# Altium schematic symbol library gersh.SchLib: 6 symbols
Pins are listed as number, name and electrical type; pins without a type are passive.

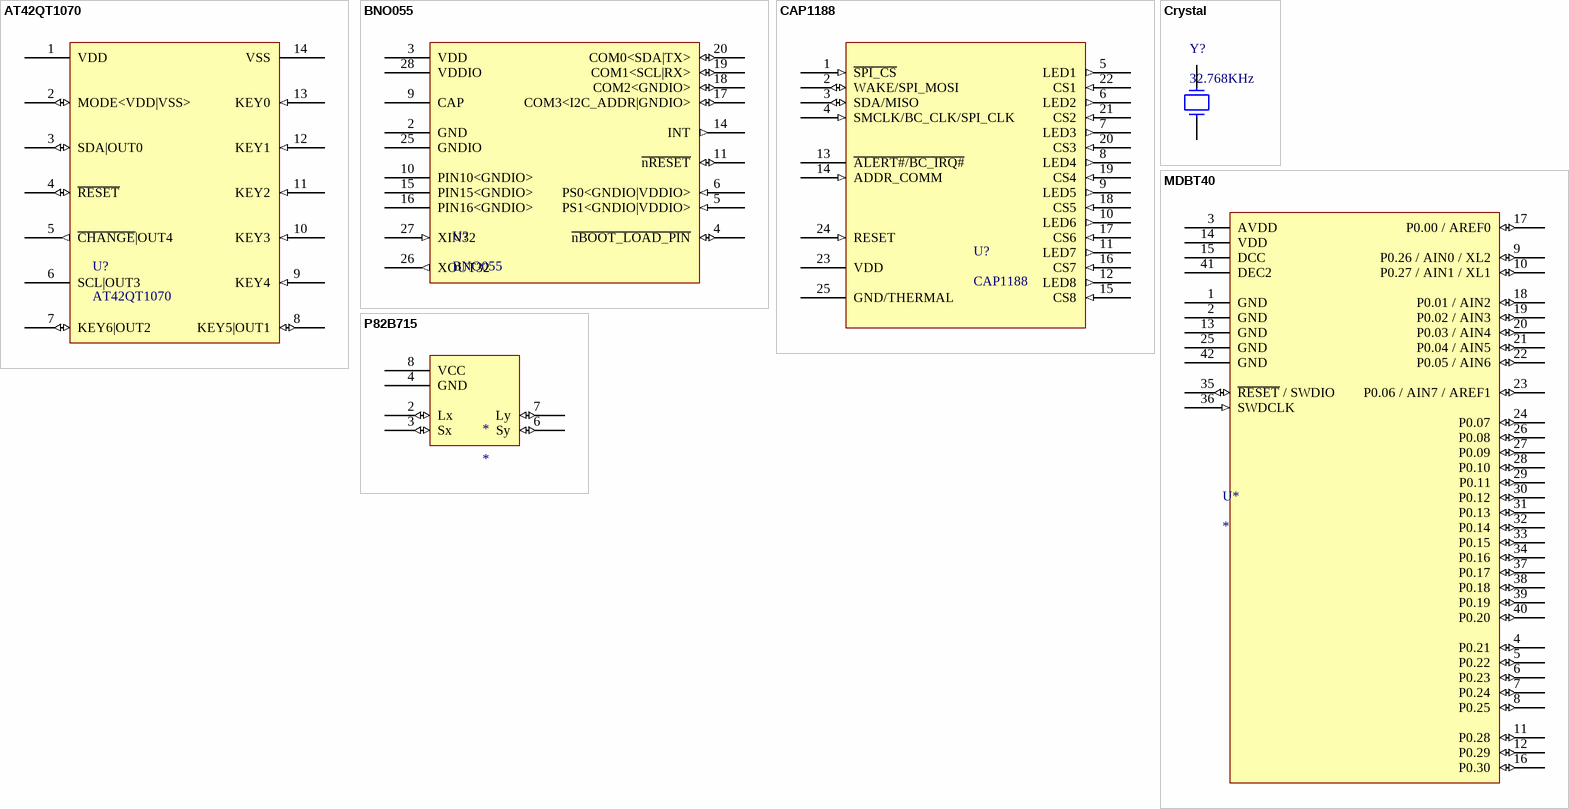
[diagram p0: symbols AT42QT1070 to P82B715]

## AT42QT1070
designator U?
Seven-channel Q Touch Sensor IC; Supplier 1: Digi-Key; Supplier Part Number 1: AT42QT1070-SSUCT-ND; Supplier 2: Digi-Key; Supplier Part Number 2: AT42QT1070-MMHCT-ND
footprint SOIC14 (SOIC, 14-Leads, Body 8.7x3.9mm, Pitch 1.27mm, IPC Low Density)
pins: 1 VDD (power) "Power", 2 MODE<VDD|VSS> (io) "Mode selection pin (comms to Vss, standalone to Vdd)", 3 SDA|OUT0 (io) "Comms mode I2C SDA, standalone guard channel (output 0)", 4 ~{RESET} (io) "Reset pin has 60k internal pull-up", 5 ~{CHANGE}|OUT4 (out) "Comms mode change line, standalone output 4", 6 SCL|OUT3 "Comms mode I2C SCL, standalone output 3", 7 KEY6|OUT2 (io) "Comms mode key 6, standalone output 2", 8 KEY5|OUT1 (io) "Comms mode key 5, standalone output 1", 9 KEY4 (in) "Key 4", 10 KEY3 (in) "Key 3", 11 KEY2 (in) "Key 2", 12 KEY1 (in) "Key 1", 13 KEY0 (in) "Key 0", 14 VSS (power) "Ground"

## BNO055
designator U?
Absolute Orientation Sensor; Supplier 1: Digi-Key; Supplier Part Number 1: 828-1058-1-ND
footprint BNO055 (28-Leads, Body 5.2x3.8mm, Pitch 0.5mm)
pins: 2 GND (power), 3 VDD (power), 4 ~{nBOOT_LOAD_PIN} (io) "Bootloader mode select pin (active low)", 5 PS1<GNDIO|VDDIO> (in) "Protocol select pin 1", 6 PS0<GNDIO|VDDIO> (in) "Protocol select pin 2", 9 CAP "External Capacitor", 10 PIN10<GNDIO> (power) "connect to GNDIO", 11 ~{nRESET} (io) "Reset pin (active low)", 14 INT (out) "Interrupt output", 15 PIN15<GNDIO> (power) "connect to GNDIO", 16 PIN16<GNDIO> (power) "connect to GNDIO", 17 COM3<I2C_ADDR|GNDIO> (io) "Digital interface pin 3", 18 COM2<GNDIO> (io) "Digital interface pin 2", 19 COM1<SCL|RX> (io) "Digital interface pin 1", 20 COM0<SDA|TX> (io) "Digital interface pin 0", 25 GNDIO (power), 26 XOUT32 (out) "Optional OSC port", 27 XIN32 (in) "Optional OSC port", 28 VDDIO (power)

## CAP1188
designator U?
Capacitive Touch Sensor
footprint QFN50P400X400X85_HS-25N (QFN, 24-Leads, Body 4.00x4.00mm, Pitch 0.50mm, Thermal Pad 2.50x2.50mm, IPC Medium Density)
pins: 1 ~{SPI_CS} (in), 2 WAKE/SPI_MOSI (io), 3 SDA/MISO (io), 4 SMCLK/BC_CLK/SPI_CLK (in), 5 LED1 (out), 6 LED2 (out), 7 LED3 (out), 8 LED4 (out), 9 LED5 (out), 10 LED6 (out), 11 LED7 (out), 12 LED8 (out), 13 ~{ALERT#/BC_IRQ#} (oc), 14 ADDR_COMM (in), 15 CS8 (in), 16 CS7 (in), 17 CS6 (in), 18 CS5 (in), 19 CS4 (in), 20 CS3 (in), 21 CS2 (in), 22 CS1 (in), 23 VDD (power), 24 RESET (in), 25 GND/THERMAL (power)

## Crystal
designator Y?, comment 32.768KHz
SMD Low Profile Crystal; Supplier 1: Digi-Key; Supplier Part Number 1: 535-13479-1-ND
footprint ABS07 (Crystal Oscillator)
pins: 1, 2

## MDBT40
designator U*
nRF51822 module
footprint MDBT40 (nRF51822 module)
pins: 1 GND (power) "The pad must be connected to a solid ground plane", 2 GND (power) "The pad must be connected to a solid ground plane", 3 AVDD (power) "Analog power supply", 4 P0.21 (io) "GPIO", 5 P0.22 (io) "GPIO", 6 P0.23 (io) "GPIO", 7 P0.24 (io) "GPIO", 8 P0.25 (io) "GPIO", 9 P0.26 / AIN0 / XL2 (io) "GPIO / Analog input 0 / Connector for 32.768KHz crystal", 10 P0.27 / AIN1 / XL1 (io) "GPIO / Analog input 1 / Connector for 32.768KHz crystal or external 32.768KHz clock  reference", 11 P0.28 (io) "GPIO", 12 P0.29 (io) "GPIO", 13 GND (power) "The pad must be connected to a solid ground plane", 14 VDD (power) "Power supply", 15 DCC (power) "DC/DC output voltage to external LC filter", 16 P0.30 (io) "GPIO", 17 P0.00 / AREF0 (io) "GPIO / ADC Reference Voltage", 18 P0.01 / AIN2 (io) "GPIO / ADC Input 2", 19 P0.02 / AIN3 (io) "GPIO / ADC Input 3", 20 P0.03 / AIN4 (io) "GPIO / ADC Input 4", 21 P0.04 / AIN5 (io) "GPIO / ADC Input 5", 22 P0.05 / AIN6 (io) "GPIO / ADC Input 6", 23 P0.06 / AIN7 / AREF1 (io) "GPIO / ADC Input 7", 24 P0.07 (io) "GPIO", 25 GND (power) "The pad must be connected to a solid ground plane", 26 P0.08 (io) "GPIO", 27 P0.09 (io) "GPIO", 28 P0.10 (io) "GPIO", 29 P0.11 (io) "GPIO", 30 P0.12 (io) "GPIO", 31 P0.13 (io) "GPIO", 32 P0.14 (io) "GPIO", 33 P0.15 (io) "GPIO", 34 P0.16 (io) "GPIO", 35 ~{RESET} / SWDIO (io) "System reset(active low).Also HW debug and flash programming", 36 SWDCLK (in) "HW debug and flash programming", 37 P0.17 (io) "GPIO", 38 P0.18 (io) "GPIO", 39 P0.19 (io) "GPIO", 40 P0.20 (io) "GPIO", 41 DEC2 (power) "Power supply decoupling. Low voltage mode VCC", 42 GND (power) "The pad must be connected to a solid ground plane"

## P82B715
designator *
I2C Bus Extender
footprint SOIC127P600X175-8N (SOIC, 8-Leads, Body 4.90x3.90mm, Pitch 1.27mm, IPC Medium Density)
pins: 2 Lx (io) "Buffered serial data bus or LDA", 3 Sx (io) "Serial data bus or SDA. Connect to VCC of I 2C master through a pullup resistor", 4 GND (power), 6 Sy (io) "Serial clock bus or SCL. Connect to VCC of I2C master through a pullup resistor", 7 Ly (io) "Buffered serial clock bus or LCL", 8 VCC (power)